# Altium schematic symbol library CTB0308_2.SchLib: 1 symbol
Pins are listed as number, name and electrical type; pins without a type are passive.

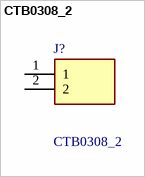
[diagram p0: symbol CTB0308_2]

## CTB0308_2
designator J?
TERMINAL BLOCK, WIRE TO BRD, 2POS, 16AWG; Manufacturer_Name: CAMDENBOSS; Manufacturer_Part_Number: CTB0308/2; Geometry.Height: 9.1mm; Farnell Part Number: *; Farnell Price/Stock: *; Datasheet Link: *
footprint CTB03082
pins: 1, 2